# Altium footprint library NT90THLC.PcbLib: 1 footprints
Each footprint in its own frame and in the unit in brackets; x right, y up, seen from the top. Pads: shape width x height; smd on the part's side, far side on the other; paste and mask are expansions set on the pad; w line width, h text height; cw(c..) or ccw(c..) is an arc to the next point about the centre after c.
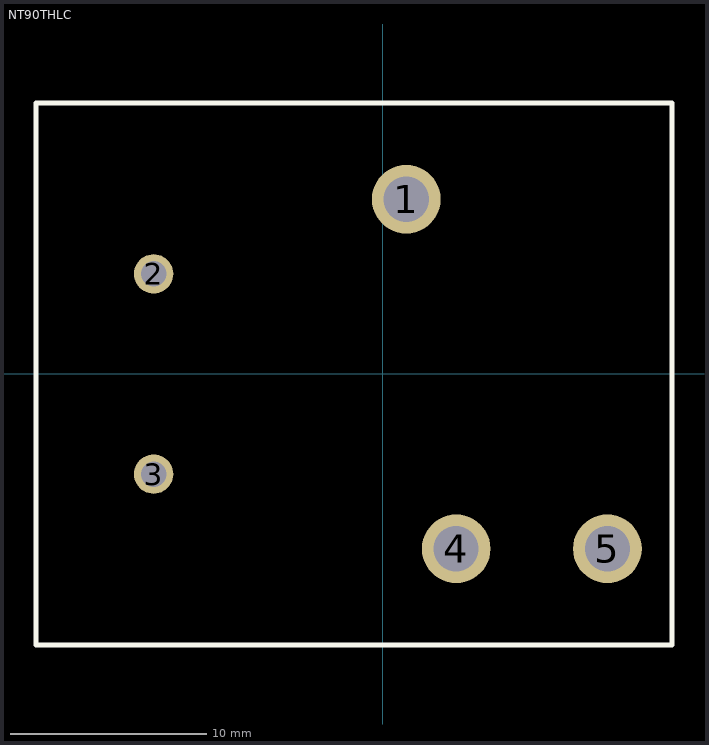
[diagram p0: the footprint, top view; thin cyan lines are the x and y axes]

## NT90THLC [mm]
pads (5):
  round 3.5 hole 2.3 paste+0 mask+0.102: 1(1.186,8.9) 4(3.726,-8.9) 5(11.426,-8.9)
  round 2 hole 1.3 paste+0 mask+0.102: 2(-11.674,5.1) 3(-11.674,-5.1)
Top Overlay:
  lines w0.254: -17.675,-13.8 14.725,-13.8 14.725,13.8 -17.672,13.8 ; -17.674,-13.8 -17.674,13.8
3D body "NT90TNCE12CB.STEP": height 27.76, standoff -5.44, extent -17.399,-14.262 14.101,12.738